# Altium footprint library DC_DC_Converter.PcbLib: 1 footprints
Each footprint in its own frame and in the unit in brackets; x right, y up, seen from the top. Pads: shape width x height; smd on the part's side, far side on the other; paste and mask are expansions set on the pad; w line width, h text height; cw(c..) or ccw(c..) is an arc to the next point about the centre after c.
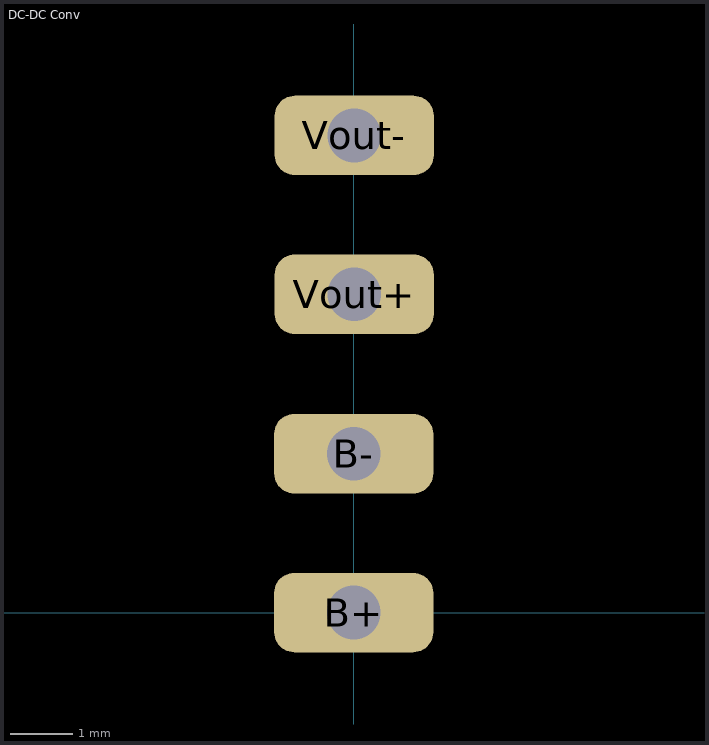
[diagram p0: the footprint, top view; thin cyan lines are the x and y axes]

## DC-DC Conv [mm]
pads (4):
  rrect50% 2.54x1.27 hole 0.86: B+(0,0) B-(0,2.535) Vout+(0.01,5.08) Vout-(0.01,7.615)
3D body "1x1 TH Vert 100mil.step": height 8.38, standoff -3.3, extent -1.27,1.27 1.27,3.81
3D body "1x1 TH Vert 100mil.step": height 8.38, standoff -3.3, extent -1.27,6.35 1.27,8.89
3D body "1x1 TH Vert 100mil.step": height 8.38, standoff -3.3, extent -1.27,3.81 1.27,6.35
3D body "1x1 TH Vert 100mil.step": height 8.38, standoff -3.3, extent -1.27,-1.27 1.27,1.27